# Altium footprint library WFDFN-12.PcbLib: 1 footprints
Each footprint in its own frame and in the unit in brackets; x right, y up, seen from the top. Pads: shape width x height; smd on the part's side, far side on the other; paste and mask are expansions set on the pad; w line width, h text height; cw(c..) or ccw(c..) is an arc to the next point about the centre after c.
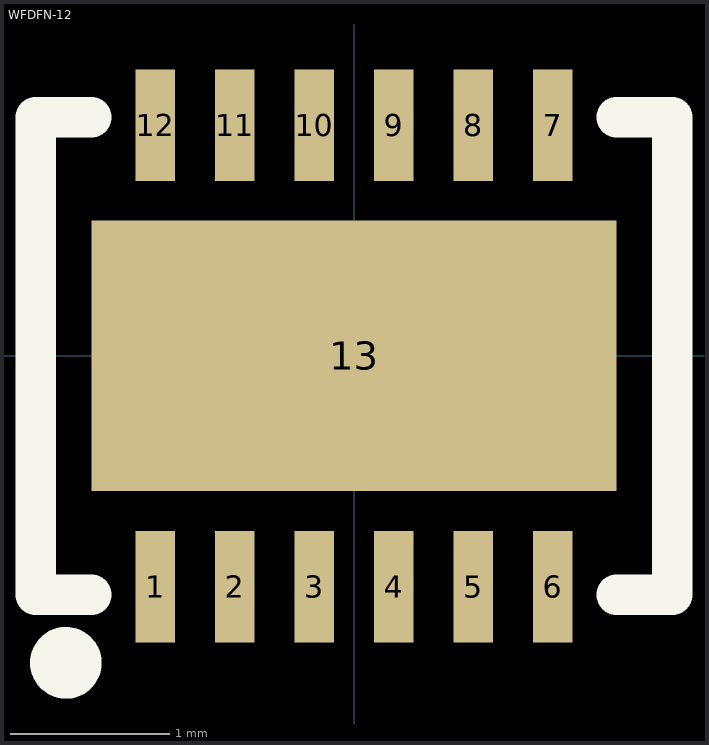
[diagram p0: the footprint, top view; thin cyan lines are the x and y axes]

## WFDFN-12 [mm]
pads (13):
  rect 0.25x0.7 smd: 1(-1.25,-1.45) 2(-0.75,-1.45) 3(-0.25,-1.45) 4(0.25,-1.45) 5(0.75,-1.45) 6(1.25,-1.45) 7(1.25,1.45) 8(0.75,1.45) 9(0.25,1.45) 10(-0.25,1.45) 11(-0.75,1.45) 12(-1.25,1.45)
  rect 3.3x1.7 smd: 13(0,0)
Top Overlay:
  circle w0.254: c-1.811,-1.929 r0.098
  lines w0.254: -1.65,-1.5 -2,-1.5 -2,1.5 -1.65,1.5 ; 1.65,-1.5 2,-1.5 2,1.5 1.65,1.5
3D body: height 0.75, standoff 0.75, extent -1.951,-1.434 -1.453,-0.935
3D body: height 0.75, standoff 0, extent -2,-1.5 2,1.5